# EAGLE library part 623X2821021 (library Board-to-Board (rev18a))
WR-PHD 1.27mm Dual SMT Socket Header H=4.50mm, 28 Pins=>Code : Con_BTB_SHD_1.27_2_623x2821021(Packaging:x = 0: Tube x = 3: Tape & Reel with Cap) <http://katalog.we-online.de/media/thumbs2/eican/thb_Con_BTB_SHD_1.27_2_6230xx21021_pf2.jpg> 6230xx21021 Details see: http://katalog.we-online.de/en/em/PHD_1_27_SMT_DUAL_SOCKET_HEADER_6230XX21021 6233xx21021 Details see: http://katalog.we-online.de/en/em/PHD_1_27_SMT_DUAL_SOCKET_HEADER_REEL_6233XX21021 2014 (C) Würth Elektronik
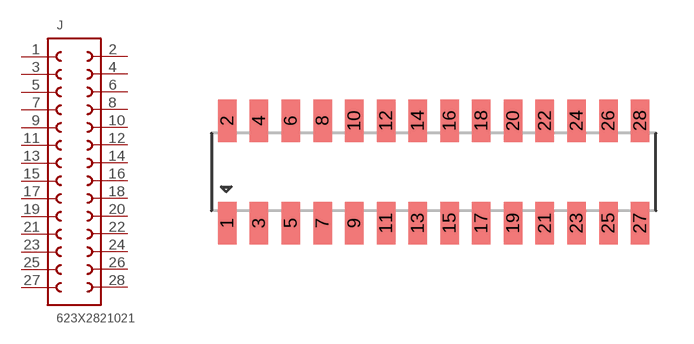
[diagram p299: symbol with the pads of 623X2821021; footprint 623X2821021]

Designator prefix J

## 623X2821021  [623X2821021]
1  1  pas
2  28  pas
3  2  pas
4  27  pas
5  3  pas
6  26  pas
7  4  pas
8  25  pas
9  5  pas
10  24  pas
11  6  pas
12  23  pas
13  7  pas
14  22  pas
15  8  pas
16  21  pas
17  9  pas
18  20  pas
19  10  pas
20  19  pas
21  11  pas
22  18  pas
23  12  pas
24  17  pas
25  13  pas
26  16  pas
27  14  pas
28  15  pas

## Footprint 623X2821021 (pad centres in mm)
WR-PHD 1.27mm Dual SMT Socket Header H=4.50mm, 28 Pins
smd 0.74 x 1.7: 1 -8.255,-2.05; 2 -8.255,2.05; 3 -6.985,-2.05; 4 -6.985,2.05; 5 -5.715,-2.05; 6 -5.715,2.05; 7 -4.445,-2.05; 8 -4.445,2.05; 9 -3.175,-2.05; 10 -3.175,2.05; 11 -1.905,-2.05; 12 -1.905,2.05; 13 -0.635,-2.05; 14 -0.635,2.05; 15 0.635,-2.05; 16 0.635,2.05; 17 1.905,-2.05; 18 1.905,2.05; 19 3.175,-2.05; 20 3.175,2.05; 21 4.445,-2.05; 22 4.445,2.05; 23 5.715,-2.05; 24 5.715,2.05; 25 6.985,-2.05; 26 6.985,2.05; 27 8.255,-2.05; 28 8.255,2.05